# Altium footprint library OL_PLCC2_3X2X13.PcbLib: 1 footprints
Each footprint in its own frame and in the unit in brackets; x right, y up, seen from the top. Pads: shape width x height; smd on the part's side, far side on the other; paste and mask are expansions set on the pad; w line width, h text height; cw(c..) or ccw(c..) is an arc to the next point about the centre after c.
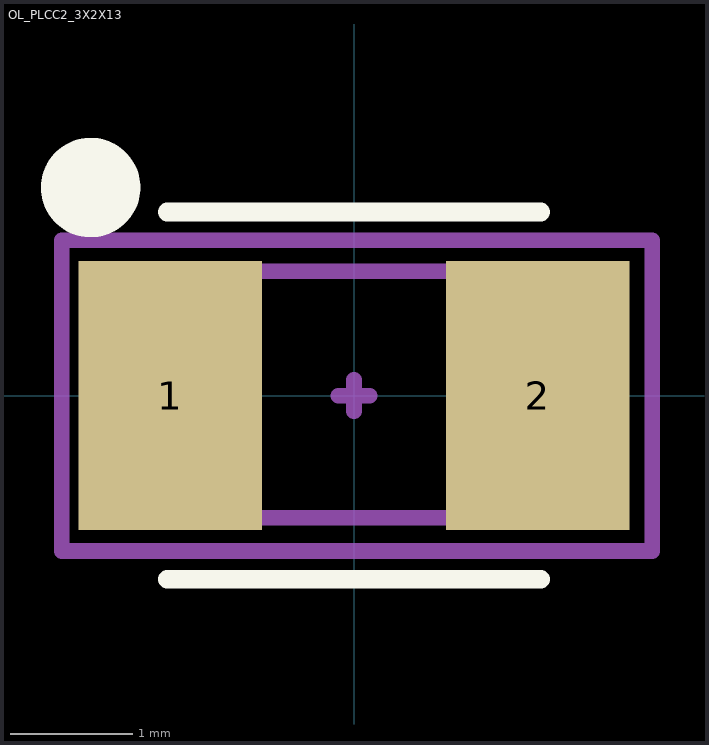
[diagram p0: the footprint, top view; thin cyan lines are the x and y axes]

## OL_PLCC2_3X2X13 [mm]
pads (2):
  rect 1.5x2.2 smd: 1(-1.5,0) 2(1.5,0)
Top Overlay:
  circle w0.508: c-2.152,1.7 r0.152
  lines w0.152: -1.525,-1.5 1.525,-1.5 ; -1.525,1.5 1.525,1.5
Mechanical 13:
  lines w0.127: -1.476,-1 1.524,-1 1.524,1.016 -1.476,1.016 -1.476,-1
Mechanical 15:
  lines w0.127: -0.127,0 0.127,0 ; 0,-0.127 0,0.127 ; -2.389,-1.27 2.437,-1.27 2.437,1.27 -2.389,1.27 -2.389,-1.27
Mechanical 17:
  text "'.Designator'" at -1.397,-0.127 h0.38
Mechanical 19:
  text "'.Comment'" at -1.397,-0.127 h0.38
3D body "User Library-PLCC2-3_0x2_0.step": height 1.29, standoff -0.02, extent -1.476,-1 1.524,1